# EAGLE library part ESP12F (library ESP12_BusinessCard)
ESP12E Module
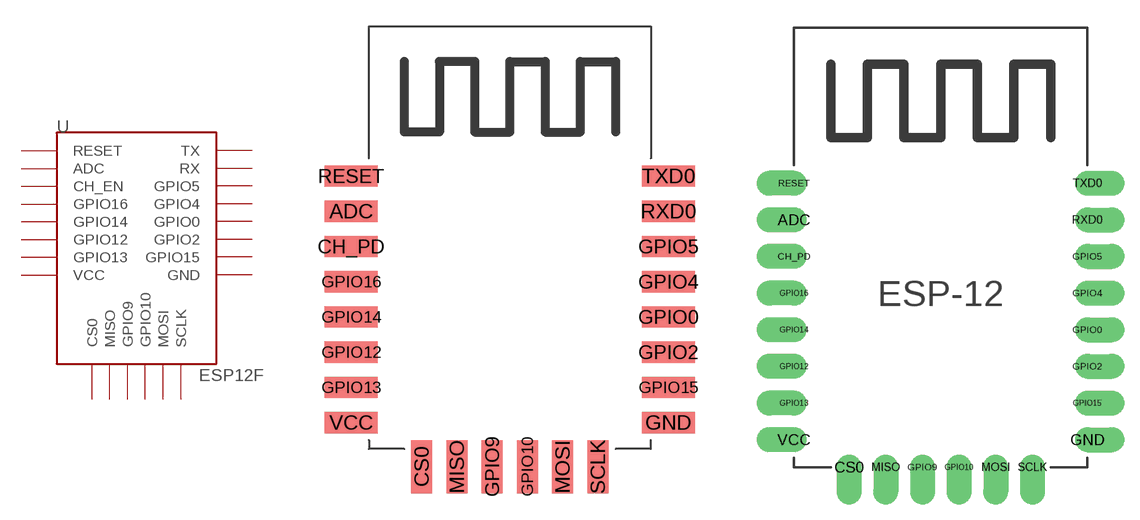
[diagram p0: symbol with the pads of ESP12E-SMD; footprints ESP12E-SMD, ESP12F]

Designator prefix U

## ESP12FSMD  [ESP12E-SMD]
ADC  ADC
CH_PD  CH_EN
CS0  CS0
GND  GND
GPIO0  GPIO0
GPIO2  GPIO2
GPIO4  GPIO4
GPIO5  GPIO5
GPIO9  GPIO9
GPIO10  GPIO10
GPIO12  GPIO12
GPIO13  GPIO13
GPIO14  GPIO14
GPIO15  GPIO15
GPIO16  GPIO16
MISO  MISO
MOSI  MOSI
RESET  RESET
RXD0  RX
SCLK  SCLK
TXD0  TX
VCC  VCC

## ESP12FPAD  [ESP12F]
Pads as for ESP12E-SMD

## Footprint ESP12E-SMD (pad centres in mm)
ESP8266 Module 12E
smd 3 x 1.2: ADC -9,4; CH_PD -9,2; GND 9,-8; GPIO0 9,-2; GPIO2 9,-4; GPIO4 9,0; GPIO5 9,2; GPIO12 -9,-4; GPIO13 -9,-6; GPIO14 -9,-2; GPIO15 9,-6; GPIO16 -9,0; RESET -9,6; RXD0 9,4; TXD0 9,6; VCC -9,-8
smd 1.2 x 3: CS0 -5,-10.5; GPIO9 -1,-10.5; GPIO10 1,-10.5; MISO -3,-10.5; MOSI 3,-10.5; SCLK 5,-10.5

## Footprint ESP12F (pad centres in mm)
ESP8266 Module 12E
drill 0.85 offset: ADC -8,4; CH_PD -8,2; CS0 -5,-9.5; GND 8,-8; GPIO0 8,-2; GPIO2 8,-4; GPIO4 8,0; GPIO5 8,2; GPIO9 -1,-9.5; GPIO10 1,-9.5; GPIO12 -8,-4; GPIO13 -8,-6; GPIO14 -8,-2; GPIO15 8,-6; GPIO16 -8,0; MISO -3,-9.5; MOSI 3,-9.5; RESET -8,6; RXD0 8,4; SCLK 5,-9.5; TXD0 8,6; VCC -8,-8